# EAGLE library part NE5532_1 (library Deegou_IC)
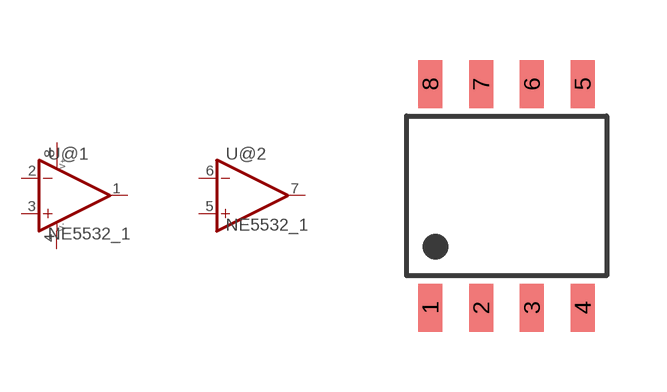
[diagram p44: symbol with the pads of SOIC8-6.0; footprint SOIC8-6.0]

Designator prefix U; gates @1=OP-AMP+--1 @2=OP-AMP-1

## NE5532_1  [SOIC8-6.0]
1  @1:OUT  out
2  @1:IN-  in
3  @1:IN+  in
4  @1:V-  pwr
5  @2:IN+  in
6  @2:IN-  in
7  @2:OUT  out
8  @1:V+  pwr

## Footprint SOIC8-6.0 (pad centres in mm)
smd 0.6 x 1.2: 1 -1.905,-2.8; 2 -0.635,-2.8; 3 0.635,-2.8; 4 1.905,-2.8; 5 1.905,2.8; 6 0.635,2.8; 7 -0.635,2.8; 8 -1.905,2.8